# Altium integrated library Common Parts.IntLib: 22 symbols
Pins are listed as number, name and electrical type; pins without a type are passive.

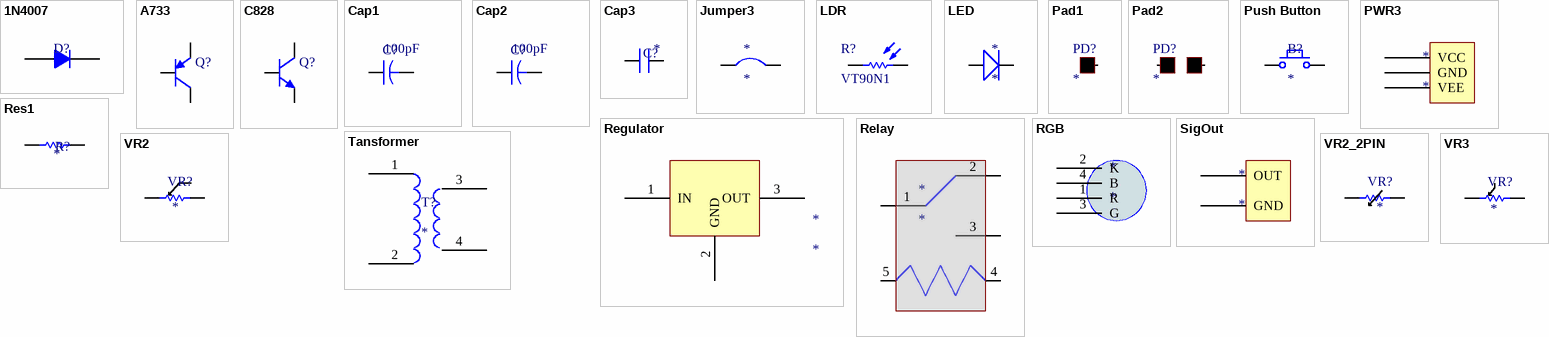
[diagram p0: symbols 1N4007 to VR3]

## 1N4007
designator D?
1 Amp General Purpose Rectifier; Published: 8-Jun-2000; LatestRevisionDate: 17-Jul-2002; LatestRevisionNote: Re-released for DXP Platform.; DatasheetVersion: 1998; PackageVersion: Aug-1999; PackageReference: DO-41; Publisher: Altium Limited; PackageDescription: Diode, Axial; Body 5.2 x 2.7 mm (LxDia. max), Lead Dia. 0.86 mm (max); Code_JEDEC: DO-204-AL; ComponentLink1Description: Manufacturer Link; ComponentLink1URL: http://www.fairchildsemi.com/; ComponentLink2Description: Datasheet; ComponentLink2URL: http://www.fairchildsemi.com/ds/1N%2F1N4001.pdf
simulation model 1N4007 (DIODE)
signal-integrity model 1N4007
footprint 1N4007 (Diode, Axial; Body 5.2 x 2.7 mm (LxDia. max), Lead Dia. 0.86 mm (max))
pins: 1 A, 2 K

## A733
designator Q?
PNP General Purpose Transistor; Published: 8-Jun-2000; LatestRevisionDate: 15-Jan-2003; LatestRevisionNote: PCB Footprint 'BCY-W3/D4.7' replaced; DatasheetVersion: 1997; PackageVersion: Sep-1998; PackageReference: TO-92A; Publisher: Altium Limited; PackageDescription: TO, Flat Index; 3 In-Line, Axial Leads; Body Dia. 4.5mm; Leads 0.51 x 0.48 mm (max); ComponentLink1Description: Manufacturer Link; ComponentLink1URL: http://www.fairchildsemi.com/; ComponentLink2Description: Datasheet; ComponentLink2URL: http://www.fairchildsemi.com/ds/2N%2F2N3906.pdf
simulation model 2N3906 (PNP)
signal-integrity model 2N3906
footprint TO-92_ONS
pins: 1 E, 2 C, 3 B

## C828
designator Q?
NPN General Purpose Transistor; Published: 8-Jun-2000; LatestRevisionDate: 15-Jan-2003; LatestRevisionNote: PCB Footprint 'BCY-W3/D4.7' replaced; DatasheetVersion: 1997; PackageVersion: Sep-1998; PackageReference: TO-92A; Publisher: Altium Limited; PackageDescription: TO, Flat Index; 3 In-Line, Axial Leads; Body Dia. 4.5mm; Leads 0.51 x 0.48 mm (max); ComponentLink1Description: Manufacturer Link; ComponentLink1URL: http://www.fairchildsemi.com/; ComponentLink2Description: Datasheet; ComponentLink2URL: http://www.fairchildsemi.com/ds/2N%2F2N3904.pdf
simulation model 2N3904 (NPN)
signal-integrity model 2N3904
footprint TO-92_ONS
pins: 1 E, 2 C, 3 B

## Cap1
designator C?  value 100pF
Capacitor; Published: 23-Sep-2002; PackageReference: CAPR5-4X5; Publisher: Altium Limited; PackageDescription: Capacitor; 2 Leads
simulation model CAP (Capacitor)
signal-integrity model Cap
footprint CAP1 (THD, 2-Leads, Dia 5mm, Body Length 11mm)
footprint CAP3 (THD, 2-Leads)
footprint CAP1_200mil (THD, 2-Leads, Dia 5mm, Body Length 11mm)
pins: 1, 2

## Cap2
designator C?  value 100pF
Capacitor; Published: 23-Sep-2002; PackageReference: CAPR5-4X5; Publisher: Altium Limited; PackageDescription: Capacitor; 2 Leads
footprint CAP2 (Capacitor; 2 Leads)
simulation model CAP (Capacitor)
signal-integrity model Cap
footprint CAP3 (THD, 2-Leads)
pins: 1, 2

## Cap3
designator C?
Capacitor; Published: 23-Sep-2002; PackageReference: CAPR5-4X5; Publisher: Altium Limited; PackageDescription: Capacitor; 2 Leads; Value: *
footprint CAP3 (THD, 2-Leads)
footprint CAP4(200mil) (THD, 2-Leads)
pins: 1, 2

## Jumper3
designator *
footprint JUMPER3
pins: 1, 2

## LDR
designator R?, comment VT90N1
Photoconductive Resistor, 200 kOhm, 100 V, 80 mW, -40 to 75 degC, 2-Pin THD, RoHS; Manufacturer: Excelitas Technology; SVHC: Cadmiumchloride(15-Jun-2015); Power Rating: 80mW; Resistance @ Lux: 12kohm; Voltage Rating: 100V; Product Range: -; Datasheet Version: 09/2006; Resistor Case Style: -; Operating Temperature Max: 75°C; Package Reference: VT90N1; Datasheet URL: http://datasheet.octopart.com/VT90N1-Excelitas-datasheet-10388451.pdf; Mounting Technology: ThroughHole; Operating Temperature Min: -40°C; Dark Resistance: 200kohm; Package Description: 2-Pin Through Hole Device, Body Width 4.17 mm (Max), Height 2.29 mm; Manufacturer URL: http://www.excelitas.com/Pages/Index.aspx; Packaging: Each
footprint LDR (THD, 2-Leads, Body Width 4.17mm (Max), Height 2.29mm)
pins: 1, 2

## LED
designator *
footprint LED (5mm)
pins: 1 A, 2 K

## Pad1
designator PD?
Single Square Pad; h: 10mil
footprint PAD1
pins: 1

## Pad2
designator PD?
Square Pad; h: 10mil
footprint PAD2
pins: 1, 2

## Push Button
designator B?
footprint PUSH_BTN
pins: 1, 2

## PWR3
designator *
footprint PWR3
pins: 1 VCC, 2 GND, 3 VEE

## Regulator
designator *
footprint Regulator
pins: 1 IN, 2 GND, 3 OUT

## Relay
designator *
footprint Relay
pins: 1, 2, 3, 4, 5

## Res1
designator R?
Resistor; Published: 8-Jun-2000; LatestRevisionDate: 17-Jul-2002; LatestRevisionNote: Re-released for DXP Platform.; PackageReference: AXIAL-0.3; Publisher: Altium Limited; PackageDescription: Axial Device, Thru-Hole; 2 Leads; 0.3 in Pin Spacing; Value: *
simulation model RESISTOR (Resistor)
signal-integrity model Res
footprint RES_TOP_1 (Axial Device, Thru-Hole; 2 Leads; 0.3 in Pin Spacing)
footprint RES_TOP_2 (Axial Device, Thru-Hole; 2 Leads; 0.3 in Pin Spacing)
footprint RES (Axial Device, Thru-Hole; 2 Leads; 0.3 in Pin Spacing)
pins: 1, 2

## RGB
designator *
footprint RGB (Axial Device, Thru-Hole; 4 Leads; 0.1 in Pin Spacing)
pins: 1 R, 2 K, 3 G, 4 B

## SigOut
designator *
footprint PWR2
pins: 1 OUT, 2 GND

## Tansformer
designator T?
footprint TRANSFORMER
pins: 1 AC1, 2 AC2, 3 DC1, 4 DC2

## VR2
designator VR?
Value: *
footprint VR_PRESET (200x200mil)
footprint VR_VOL_CTRL (200x50mil)
pins: 1, 2, 3

## VR2_2PIN
designator VR?
Value: *
footprint VR_VOL_CTRL_2 (200x50mil)
pins: 1, 2

## VR3
designator VR?
Value: *
footprint VR_PRESET (200x200mil)
footprint VR_VOL_CTRL (200x50mil)
pins: 1, 2, 3